# Altium schematic symbol library FPGA_Xilinx.SchLib: 34 symbols (part 2 of 2)
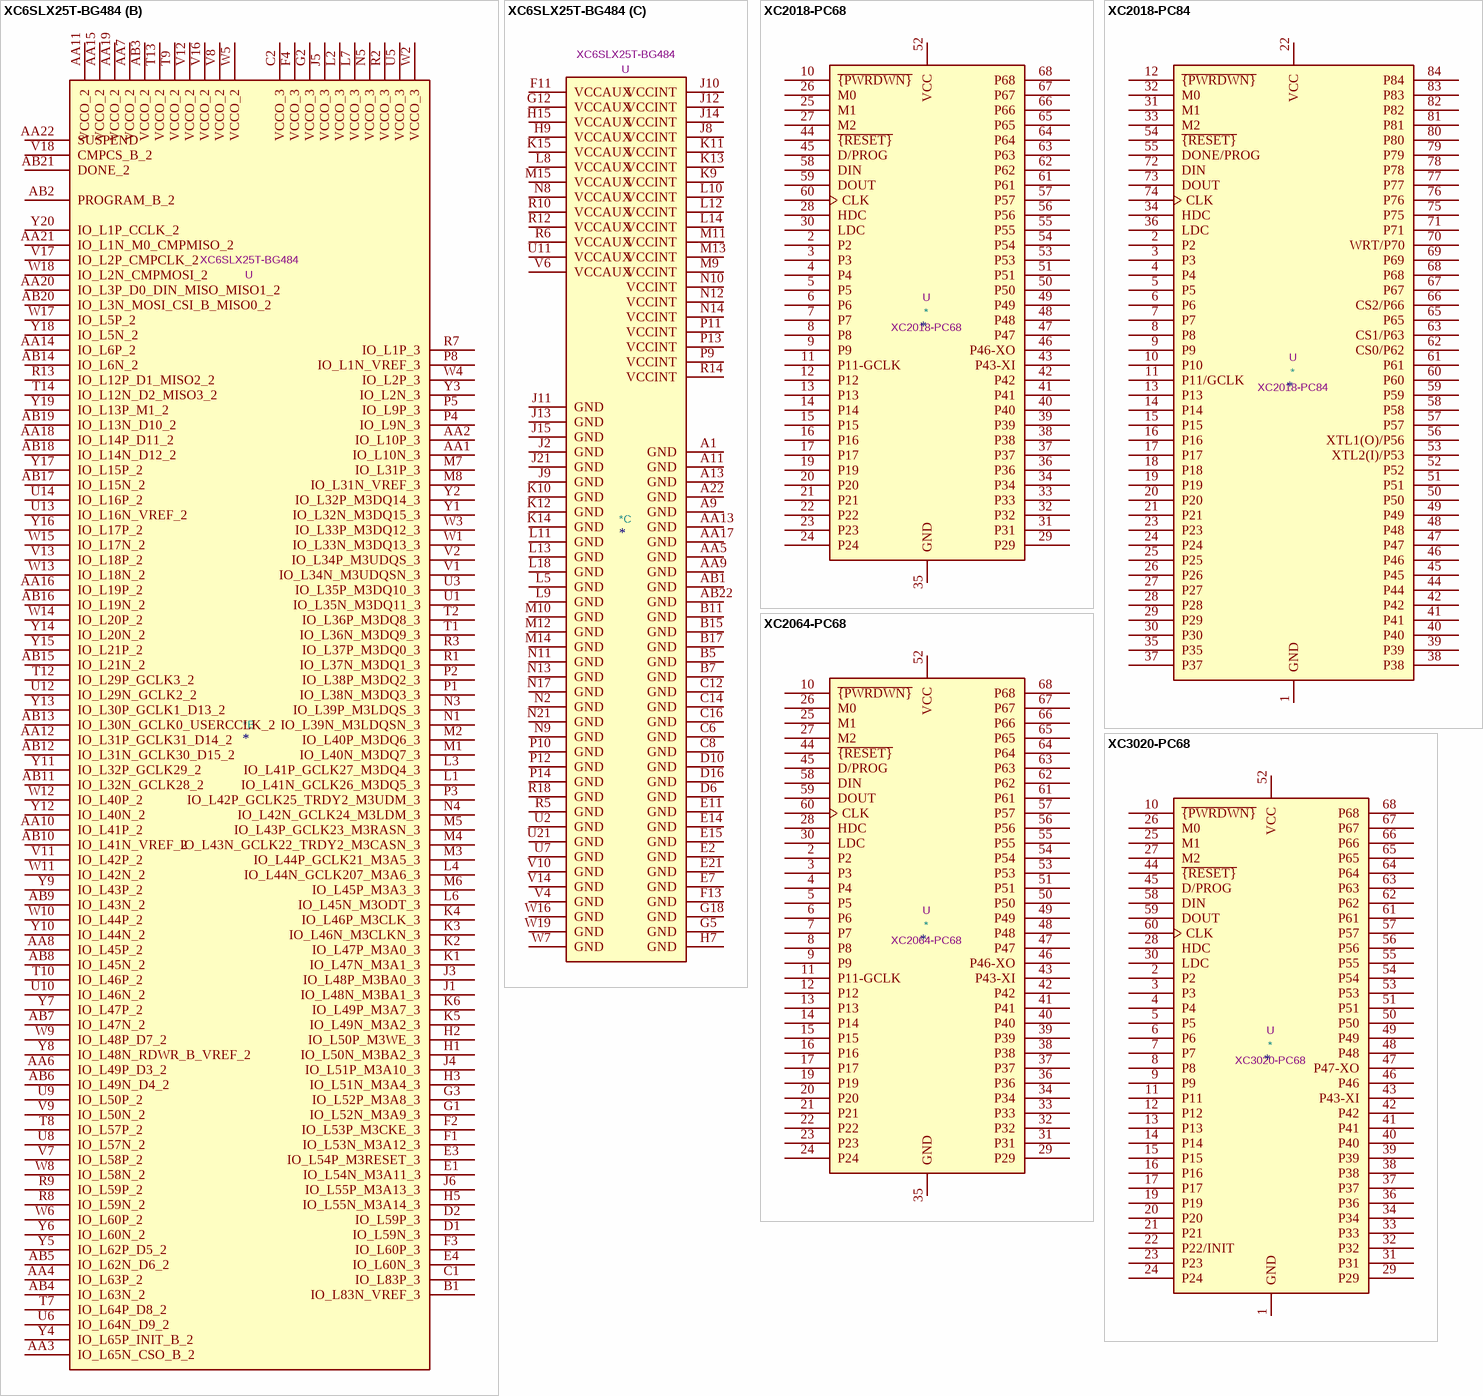
[diagram p12: symbols XC6SLX25T-BG484 to XC3020-PC68]

## XC2018-PC84
designator *  value XC2018-PC84  Reference: U
pins: 1 GND, 2 P2, 3 P3, 4 P4, 5 P5, 6 P6, 7 P7, 8 P8, 9 P9, 10 P10, 11 P11/GCLK, 12 ~{{PWRDWN}}, 13 P13, 14 P14, 15 P15, 16 P16, 17 P17, 18 P18, 19 P19, 20 P20, 21 P21, 22 VCC, 23 P23, 24 P24, 25 P25, 26 P26, 27 P27, 28 P28, 29 P29, 30 P30, 31 M1, 32 M0, 33 M2, 34 HDC, 35 P35, 36 LDC, 37 P37, 38 P38, 39 P39, 40 P40, 41 P41, 42 P42, 43 GND hidden, 44 P44, 45 P45, 46 P46, 47 P47, 48 P48, 49 P49, 50 P50, 51 P51, 52 P52, 53 XTL2(I)/P53, 54 ~{{RESET}}, 55 DONE/PROG, 56 XTL1(O)/P56, 57 P57, 58 P58, 59 P59, 60 P60, 61 P61, 62 CS0/P62, 63 CS1/P63, 64 VCC hidden, 65 P65, 66 CS2/P66, 67 P67, 68 P68, 69 P69, 70 WRT/P70, 71 P71, 72 DIN, 73 DOUT, 74 CLK, 75 P75, 76 P76, 77 P77, 78 P78, 79 P79, 80 P80, 81 P81, 82 P82, 83 P83, 84 P84

## XC2064-PC68
designator *  value XC2064-PC68  Reference: U
pins: 1 GND hidden, 2 P2, 3 P3, 4 P4, 5 P5, 6 P6, 7 P7, 8 P8, 9 P9, 10 ~{{PWRDWN}}, 11 P11-GCLK, 12 P12, 13 P13, 14 P14, 15 P15, 16 P16, 17 P17, 18 VCC hidden, 19 P19, 20 P20, 21 P21, 22 P22, 23 P23, 24 P24, 25 M1, 26 M0, 27 M2, 28 HDC, 29 P29, 30 LDC, 31 P31, 32 P32, 33 P33, 34 P34, 35 GND, 36 P36, 37 P37, 38 P38, 39 P39, 40 P40, 41 P41, 42 P42, 43 P43-XI, 44 ~{{RESET}}, 45 D/PROG, 46 P46-XO, 47 P47, 48 P48, 49 P49, 50 P50, 51 P51, 52 VCC, 53 P53, 54 P54, 55 P55, 56 P56, 57 P57, 58 DIN, 59 DOUT, 60 CLK, 61 P61, 62 P62, 63 P63, 64 P64, 65 P65, 66 P66, 67 P67, 68 P68

## XC3020-PC68
designator *  value XC3020-PC68  Reference: U
pins: 1 GND, 2 P2, 3 P3, 4 P4, 5 P5, 6 P6, 7 P7, 8 P8, 9 P9, 10 ~{{PWRDWN}}, 11 P11, 12 P12, 13 P13, 14 P14, 15 P15, 16 P16, 17 P17, 18 VCC hidden, 19 P19, 20 P20, 21 P21, 22 P22/INIT, 23 P23, 24 P24, 25 M1, 26 M0, 27 M2, 28 HDC, 29 P29, 30 LDC, 31 P31, 32 P32, 33 P33, 34 P34, 35 GND hidden, 36 P36, 37 P37, 38 P38, 39 P39, 40 P40, 41 P41, 42 P42, 43 P43-XI, 44 ~{{RESET}}, 45 D/PROG, 46 P46, 47 P47-XO, 48 P48, 49 P49, 50 P50, 51 P51, 52 VCC, 53 P53, 54 P54, 55 P55, 56 P56, 57 P57, 58 DIN, 59 DOUT, 60 CLK, 61 P61, 62 P62, 63 P63, 64 P64, 65 P65, 66 P66, 67 P67, 68 P68

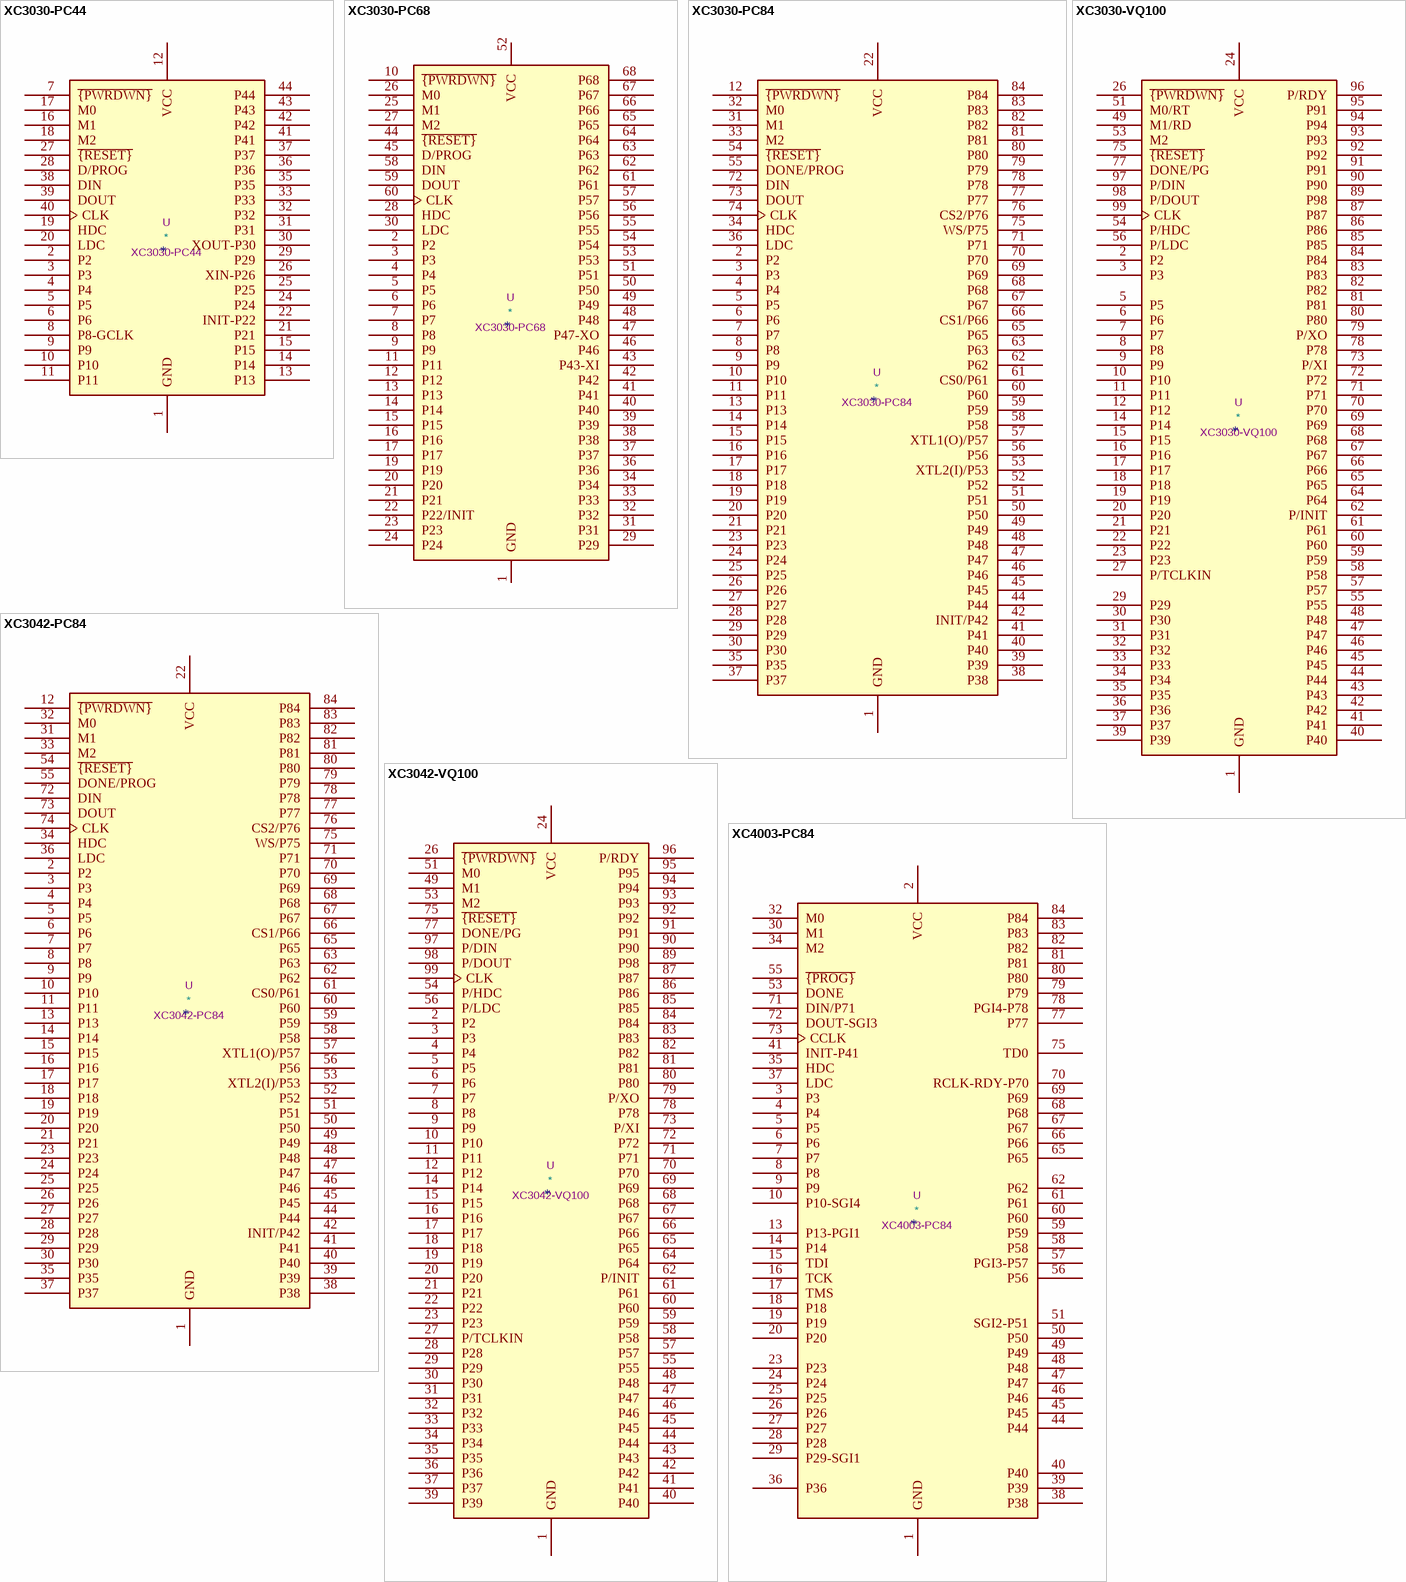
[diagram p9: symbols XC3030-PC44 to XC4003-PC84]

## XC3030-PC44
designator *  value XC3030-PC44  Reference: U
pins: 1 GND, 2 P2, 3 P3, 4 P4, 5 P5, 6 P6, 7 ~{{PWRDWN}}, 8 P8-GCLK, 9 P9, 10 P10, 11 P11, 12 VCC, 13 P13, 14 P14, 15 P15, 16 M1, 17 M0, 18 M2, 19 HDC, 20 LDC, 21 P21, 22 INIT-P22, 23 GND hidden, 24 P24, 25 P25, 26 XIN-P26, 27 ~{{RESET}}, 28 D/PROG, 29 P29, 30 XOUT-P30, 31 P31, 32 P32, 33 P33, 34 VCC hidden, 35 P35, 36 P36, 37 P37, 38 DIN, 39 DOUT, 40 CLK, 41 P41, 42 P42, 43 P43, 44 P44

## XC3030-PC68
designator *  value XC3030-PC68  Reference: U
pins: 1 GND, 2 P2, 3 P3, 4 P4, 5 P5, 6 P6, 7 P7, 8 P8, 9 P9, 10 ~{{PWRDWN}}, 11 P11, 12 P12, 13 P13, 14 P14, 15 P15, 16 P16, 17 P17, 18 VCC hidden, 19 P19, 20 P20, 21 P21, 22 P22/INIT, 23 P23, 24 P24, 25 M1, 26 M0, 27 M2, 28 HDC, 29 P29, 30 LDC, 31 P31, 32 P32, 33 P33, 34 P34, 35 GND hidden, 36 P36, 37 P37, 38 P38, 39 P39, 40 P40, 41 P41, 42 P42, 43 P43-XI, 44 ~{{RESET}}, 45 D/PROG, 46 P46, 47 P47-XO, 48 P48, 49 P49, 50 P50, 51 P51, 52 VCC, 53 P53, 54 P54, 55 P55, 56 P56, 57 P57, 58 DIN, 59 DOUT, 60 CLK, 61 P61, 62 P62, 63 P63, 64 P64, 65 P65, 66 P66, 67 P67, 68 P68

## XC3030-PC84
designator *  value XC3030-PC84  Reference: U
pins: 1 GND, 2 P2, 3 P3, 4 P4, 5 P5, 6 P6, 7 P7, 8 P8, 9 P9, 10 P10, 11 P11, 12 ~{{PWRDWN}}, 13 P13, 14 P14, 15 P15, 16 P16, 17 P17, 18 P18, 19 P19, 20 P20, 21 P21, 22 VCC, 23 P23, 24 P24, 25 P25, 26 P26, 27 P27, 28 P28, 29 P29, 30 P30, 31 M1, 32 M0, 33 M2, 34 HDC, 35 P35, 36 LDC, 37 P37, 38 P38, 39 P39, 40 P40, 41 P41, 42 INIT/P42, 43 GND hidden, 44 P44, 45 P45, 46 P46, 47 P47, 48 P48, 49 P49, 50 P50, 51 P51, 52 P52, 53 XTL2(I)/P53, 54 ~{{RESET}}, 55 DONE/PROG, 56 P56, 57 XTL1(O)/P57, 58 P58, 59 P59, 60 P60, 61 CS0/P61, 62 P62, 63 P63, 64 VCC hidden, 65 P65, 66 CS1/P66, 67 P67, 68 P68, 69 P69, 70 P70, 71 P71, 72 DIN, 73 DOUT, 74 CLK, 75 WS/P75, 76 CS2/P76, 77 P77, 78 P78, 79 P79, 80 P80, 81 P81, 82 P82, 83 P83, 84 P84

## XC3030-VQ100
designator *  value XC3030-VQ100  Reference: U
pins: 1 GND, 2 P2, 3 P3, 5 P5, 6 P6, 7 P7, 8 P8, 9 P9, 10 P10, 11 P11, 12 P12, 13 GND hidden, 14 P14, 15 P15, 16 P16, 17 P17, 18 P18, 19 P19, 20 P20, 21 P21, 22 P22, 23 P23, 24 VCC, 25 GND hidden, 26 ~{{PWRDWN}}, 27 P/TCLKIN, 29 P29, 30 P30, 31 P31, 32 P32, 33 P33, 34 P34, 35 P35, 36 P36, 37 P37, 38 VCC hidden, 39 P39, 40 P40, 41 P41, 42 P42, 43 P43, 44 P44, 45 P45, 46 P46, 47 P47, 48 P48, 49 M1/RD, 50 GND hidden, 51 M0/RT, 52 VCC hidden, 53 M2, 54 P/HDC, 55 P55, 56 P/LDC, 57 P57, 58 P58, 59 P59, 60 P60, 61 P61, 62 P/INIT, 63 GND hidden, 64 P64, 65 P65, 66 P66, 67 P67, 68 P68, 69 P69, 70 P70, 71 P71, 72 P72, 73 P/XI, 74 GND hidden, 75 ~{{RESET}}, 76 VCC hidden, 77 DONE/PG, 78 P78, 79 P/XO, 80 P80, 81 P81, 82 P82, 83 P83, 84 P84, 85 P85, 86 P86, 87 P87, 88 VCC hidden, 89 P98, 90 P90, 91 P91, 92 P92, 93 P93, 94 P94, 95 P91, 96 P/RDY, 97 P/DIN, 98 P/DOUT, 99 CLK, 100 VCC hidden

## XC3042-PC84
designator *  value XC3042-PC84  Reference: U
pins: 1 GND, 2 P2, 3 P3, 4 P4, 5 P5, 6 P6, 7 P7, 8 P8, 9 P9, 10 P10, 11 P11, 12 ~{{PWRDWN}}, 13 P13, 14 P14, 15 P15, 16 P16, 17 P17, 18 P18, 19 P19, 20 P20, 21 P21, 22 VCC, 23 P23, 24 P24, 25 P25, 26 P26, 27 P27, 28 P28, 29 P29, 30 P30, 31 M1, 32 M0, 33 M2, 34 HDC, 35 P35, 36 LDC, 37 P37, 38 P38, 39 P39, 40 P40, 41 P41, 42 INIT/P42, 43 GND hidden, 44 P44, 45 P45, 46 P46, 47 P47, 48 P48, 49 P49, 50 P50, 51 P51, 52 P52, 53 XTL2(I)/P53, 54 ~{{RESET}}, 55 DONE/PROG, 56 P56, 57 XTL1(O)/P57, 58 P58, 59 P59, 60 P60, 61 CS0/P61, 62 P62, 63 P63, 64 VCC hidden, 65 P65, 66 CS1/P66, 67 P67, 68 P68, 69 P69, 70 P70, 71 P71, 72 DIN, 73 DOUT, 74 CLK, 75 WS/P75, 76 CS2/P76, 77 P77, 78 P78, 79 P79, 80 P80, 81 P81, 82 P82, 83 P83, 84 P84

## XC3042-VQ100
designator *  value XC3042-VQ100  Reference: U
pins: 1 GND, 2 P2, 3 P3, 4 P4, 5 P5, 6 P6, 7 P7, 8 P8, 9 P9, 10 P10, 11 P11, 12 P12, 13 GND hidden, 14 P14, 15 P15, 16 P16, 17 P17, 18 P18, 19 P19, 20 P20, 21 P21, 22 P22, 23 P23, 24 VCC, 25 GND hidden, 26 ~{{PWRDWN}}, 27 P/TCLKIN, 28 P28, 29 P29, 30 P30, 31 P31, 32 P32, 33 P33, 34 P34, 35 P35, 36 P36, 37 P37, 38 VCC hidden, 39 P39, 40 P40, 41 P41, 42 P42, 43 P43, 44 P44, 45 P45, 46 P46, 47 P47, 48 P48, 49 M1, 50 GND hidden, 51 M0, 52 VCC hidden, 53 M2, 54 P/HDC, 55 P55, 56 P/LDC, 57 P57, 58 P58, 59 P59, 60 P60, 61 P61, 62 P/INIT, 63 GND hidden, 64 P64, 65 P65, 66 P66, 67 P67, 68 P68, 69 P69, 70 P70, 71 P71, 72 P72, 73 P/XI, 74 GND hidden, 75 ~{{RESET}}, 76 VCC hidden, 77 DONE/PG, 78 P78, 79 P/XO, 80 P80, 81 P81, 82 P82, 83 P83, 84 P84, 85 P85, 86 P86, 87 P87, 88 VCC hidden, 89 P98, 90 P90, 91 P91, 92 P92, 93 P93, 94 P94, 95 P95, 96 P/RDY, 97 P/DIN, 98 P/DOUT, 99 CLK, 100 VCC hidden

## XC4003-PC84
designator *  value XC4003-PC84  Reference: U
pins: 1 GND, 2 VCC, 3 P3, 4 P4, 5 P5, 6 P6, 7 P7, 8 P8, 9 P9, 10 P10-SGI4, 11 VCC hidden, 12 GND hidden, 13 P13-PGI1, 14 P14, 15 TDI, 16 TCK, 17 TMS, 18 P18, 19 P19, 20 P20, 21 GND hidden, 23 P23, 24 P24, 25 P25, 26 P26, 27 P27, 28 P28, 29 P29-SGI1, 30 M1, 31 GND hidden, 32 M0, 33 VCC hidden, 34 M2, 35 HDC, 36 P36, 37 LDC, 38 P38, 39 P39, 40 P40, 41 INIT-P41, 42 VCC hidden, 43 GND hidden, 44 P44, 45 P45, 46 P46, 47 P47, 48 P48, 49 P49, 50 P50, 51 SGI2-P51, 52 GND hidden, 53 DONE, 54 VCC hidden, 55 ~{{PROG}}, 56 P56, 57 PGI3-P57, 58 P58, 59 P59, 60 P60, 61 P61, 62 P62, 64 GND hidden, 65 P65, 66 P66, 67 P67, 68 P68, 69 P69, 70 RCLK-RDY-P70, 71 DIN/P71, 72 DOUT-SGI3, 73 CCLK, 74 VCC hidden, 75 TD0, 76 GND hidden, 77 P77, 78 PGI4-P78, 79 P79, 80 P80, 81 P81, 82 P82, 83 P83, 84 P84

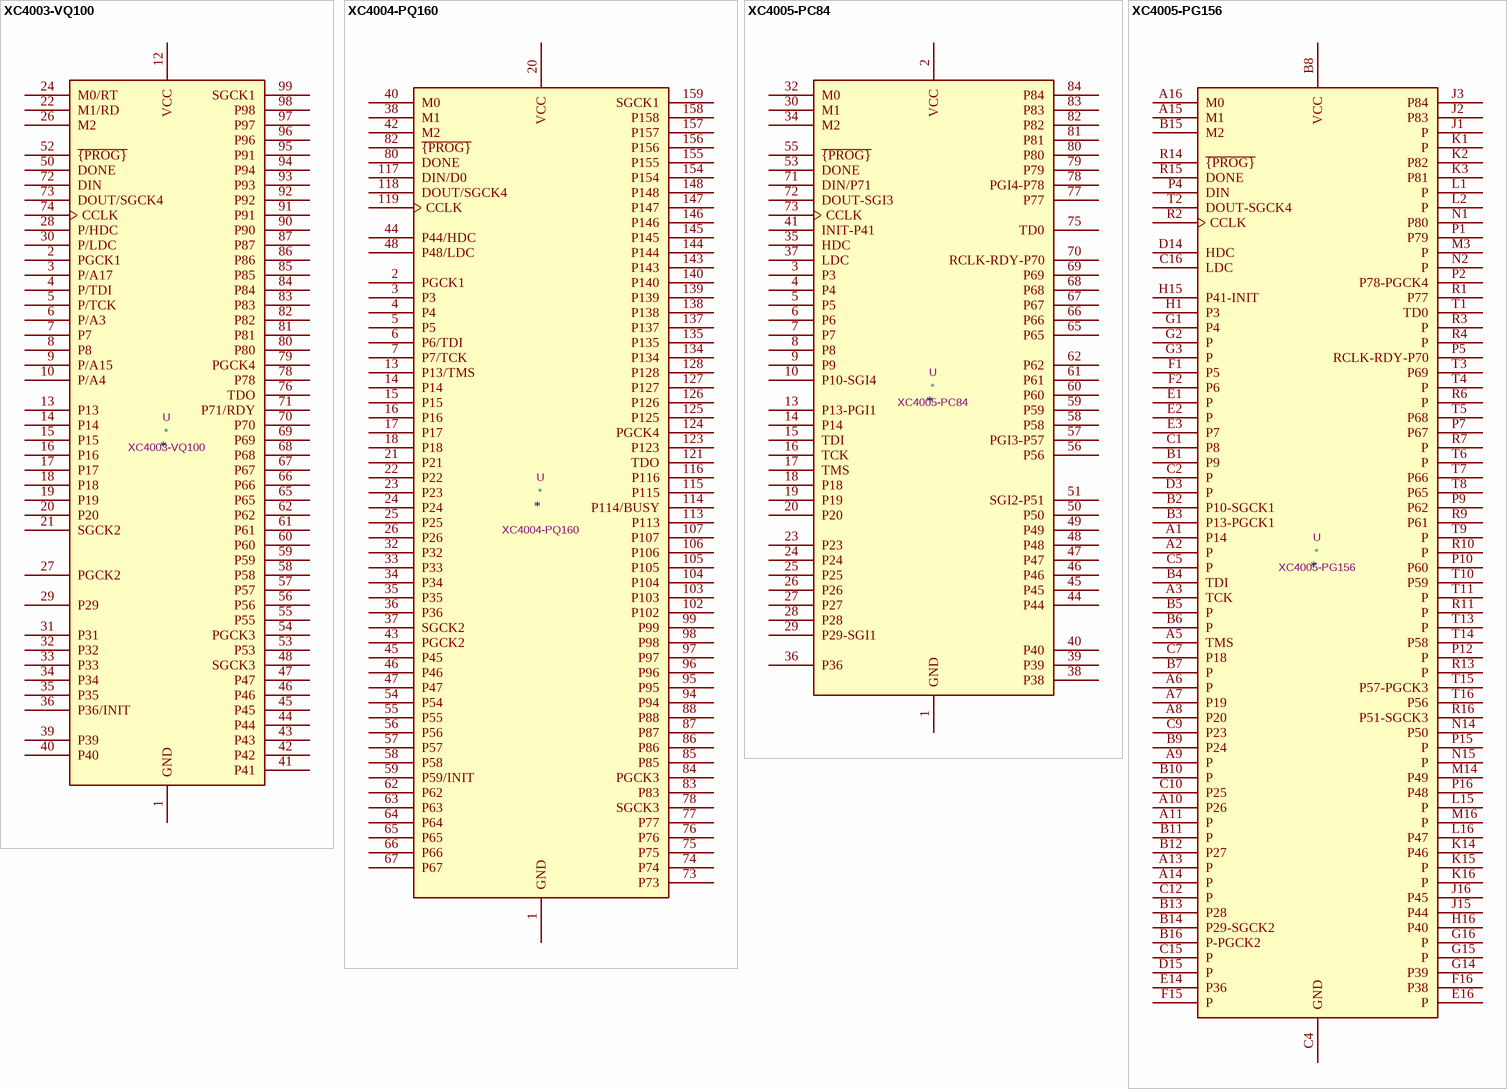
[diagram p10: symbols XC4003-VQ100 to XC4005-PG156]

## XC4003-VQ100
designator *  value XC4003-VQ100  Reference: U
Datasheet: xilinx/xc400x-pinout.pdf
pins: 1 GND, 2 PGCK1, 3 P/A17, 4 P/TDI, 5 P/TCK, 6 P/A3, 7 P7, 8 P8, 9 P/A15, 10 P/A4, 11 GND hidden, 12 VCC, 13 P13, 14 P14, 15 P15, 16 P16, 17 P17, 18 P18, 19 P19, 20 P20, 21 SGCK2, 22 M1/RD, 23 GND hidden, 24 M0/RT, 25 VCC hidden, 26 M2, 27 PGCK2, 28 P/HDC, 29 P29, 30 P/LDC, 31 P31, 32 P32, 33 P33, 34 P34, 35 P35, 36 P36/INIT, 37 VCC hidden, 38 GND hidden, 39 P39, 40 P40, 41 P41, 42 P42, 43 P43, 44 P44, 45 P45, 46 P46, 47 P47, 48 SGCK3, 49 GND hidden, 50 DONE, 51 VCC hidden, 52 ~{{PROG}}, 53 P53, 54 PGCK3, 55 P55, 56 P56, 57 P57, 58 P58, 59 P59, 60 P60, 61 P61, 62 P62, 63 VCC hidden, 64 GND hidden, 65 P65, 66 P66, 67 P67, 68 P68, 69 P69, 70 P70, 71 P71/RDY, 72 DIN, 73 DOUT/SGCK4, 74 CCLK, 75 VCC hidden, 76 TDO, 77 GND hidden, 78 P78, 79 PGCK4, 80 P80, 81 P81, 82 P82, 83 P83, 84 P84, 85 P85, 86 P86, 87 P87, 88 GND hidden, 89 VCC hidden, 90 P90, 91 P91, 92 P92, 93 P93, 94 P94, 95 P91, 96 P96, 97 P97, 98 P98, 99 SGCK1, 100 VCC hidden

## XC4004-PQ160
designator *  value XC4004-PQ160  Reference: U
pins: 1 GND, 2 PGCK1, 3 P3, 4 P4, 5 P5, 6 P6/TDI, 7 P7/TCK, 10 GND hidden, 13 P13/TMS, 14 P14, 15 P15, 16 P16, 17 P17, 18 P18, 19 GND hidden, 20 VCC, 21 P21, 22 P22, 23 P23, 24 P24, 25 P25, 26 P26, 29 GND hidden, 32 P32, 33 P33, 34 P34, 35 P35, 36 P36, 37 SGCK2, 38 M1, 39 GND hidden, 40 M0, 41 VCC hidden, 42 M2, 43 PGCK2, 44 P44/HDC, 45 P45, 46 P46, 47 P47, 48 P48/LDC, 51 GND hidden, 54 P54, 55 P55, 56 P56, 57 P57, 58 P58, 59 P59/INIT, 60 VCC hidden, 61 GND hidden, 62 P62, 63 P63, 64 P64, 65 P65, 66 P66, 67 P67, 70 GND hidden, 73 P73, 74 P74, 75 P75, 76 P76, 77 P77, 78 SGCK3, 79 GND hidden, 80 DONE, 81 VCC hidden, 82 ~{{PROG}}, 83 P83, 84 PGCK3, 85 P85, 86 P86, 87 P87, 88 P88, 91 GND hidden, 94 P94, 95 P95, 96 P96, 97 P97, 98 P98, 99 P99, 100 VCC hidden, 101 GND hidden, 102 P102, 103 P103, 104 P104, 105 P105, 106 P106, 107 P107, 110 GND hidden, 113 P113, 114 P114/BUSY, 115 P115, 116 P116, 117 DIN/D0, 118 DOUT/SGCK4, 119 CCLK, 120 VCC hidden, 121 TDO, 122 GND hidden, 123 P123, 124 PGCK4, 125 P125, 126 P126, 127 P127, 128 P128, 131 GND hidden, 134 P134, 135 P135, 137 P137, 138 P138, 139 P139, 140 P140, 141 GND hidden, 142 VCC hidden, 143 P143, 144 P144, 145 P145, 146 P146, 147 P147, 148 P148, 151 GND hidden, 154 P154, 155 P155, 156 P156, 157 P157, 158 P158, 159 SGCK1, 160 VCC hidden

## XC4005-PC84
designator *  value XC4005-PC84  Reference: U
pins: 1 GND, 2 VCC, 3 P3, 4 P4, 5 P5, 6 P6, 7 P7, 8 P8, 9 P9, 10 P10-SGI4, 11 VCC hidden, 12 GND hidden, 13 P13-PGI1, 14 P14, 15 TDI, 16 TCK, 17 TMS, 18 P18, 19 P19, 20 P20, 21 GND hidden, 23 P23, 24 P24, 25 P25, 26 P26, 27 P27, 28 P28, 29 P29-SGI1, 30 M1, 31 GND hidden, 32 M0, 33 VCC hidden, 34 M2, 35 HDC, 36 P36, 37 LDC, 38 P38, 39 P39, 40 P40, 41 INIT-P41, 42 VCC hidden, 43 GND hidden, 44 P44, 45 P45, 46 P46, 47 P47, 48 P48, 49 P49, 50 P50, 51 SGI2-P51, 52 GND hidden, 53 DONE, 54 VCC hidden, 55 ~{{PROG}}, 56 P56, 57 PGI3-P57, 58 P58, 59 P59, 60 P60, 61 P61, 62 P62, 64 GND hidden, 65 P65, 66 P66, 67 P67, 68 P68, 69 P69, 70 RCLK-RDY-P70, 71 DIN/P71, 72 DOUT-SGI3, 73 CCLK, 74 VCC hidden, 75 TD0, 76 GND hidden, 77 P77, 78 PGI4-P78, 79 P79, 80 P80, 81 P81, 82 P82, 83 P83, 84 P84

## XC4005-PG156
designator *  value XC4005-PG156  Reference: U
pins: A1 P14, A2 P, A3 TCK, A5 TMS, A6 P, A7 P19, A8 P20, A9 P, A10 P26, A11 P, A13 P, A14 P, A15 M1, A16 M0, B1 P9, B2 P10-SGCK1, B3 P13-PGCK1, B4 TDI, B5 P, B6 P, B7 P, B8 VCC, B9 P24, B10 P, B11 P, B12 P27, B13 P28, B14 P29-SGCK2, B15 M2, B16 P-PGCK2, C1 P8, C2 P, C3 VCC hidden, C4 GND, C5 P, C6 GND hidden, C7 P18, C8 GND hidden, C9 P23, C10 P25, C11 GND hidden, C12 P, C13 GND hidden, C14 VCC hidden, C15 P, C16 LDC, D3 P, D14 HDC, D15 P, E1 P, E2 P, E3 P7, E14 P36, E16 P, F1 P5, F2 P6, F3 GND hidden, F14 GND hidden, F15 P, F16 P38, G1 P4, G2 P, G3 P, G14 P39, G15 P, G16 P, H1 P3, H2 GND hidden, H3 VCC hidden, H14 VCC hidden, H15 P41-INIT, H16 P40, J1 P, J2 P83, J3 P84, J14 GND hidden, J15 P44, J16 P45, K1 P, K2 P82, K3 P81, K14 P46, K15 P, K16 P, L1 P, L2 P, L3 GND hidden, L14 GND hidden, L15 P, L16 P47, M3 P, M14 P49, M16 P, N1 P80, N2 P, N3 GND hidden, N14 P50, N15 P, P1 P79, P2 P78-PGCK4, P3 VCC hidden, P4 DIN, P5 RCLK-RDY-P70, P6 GND hidden, P7 P67, P8 GND hidden, P9 P62, P10 P60, P11 GND hidden, P12 P, P13 VCC hidden, P14 GND hidden, P15 P, P16 P48, R1 P77, R2 CCLK, R3 P, R4 P, R6 P, R7 P, R8 VCC hidden, R9 P61, R10 P, R11 P, R13 P, R14 ~{{PROG}}, R15 DONE, R16 P51-SGCK3, T1 TD0, T2 DOUT-SGCK4, T3 P69, T4 P, T5 P68, T6 P, T7 P66, T8 P65, T9 P, T10 P59, T11 P, T13 P, T14 P58, T15 P57-PGCK3, T16 P56

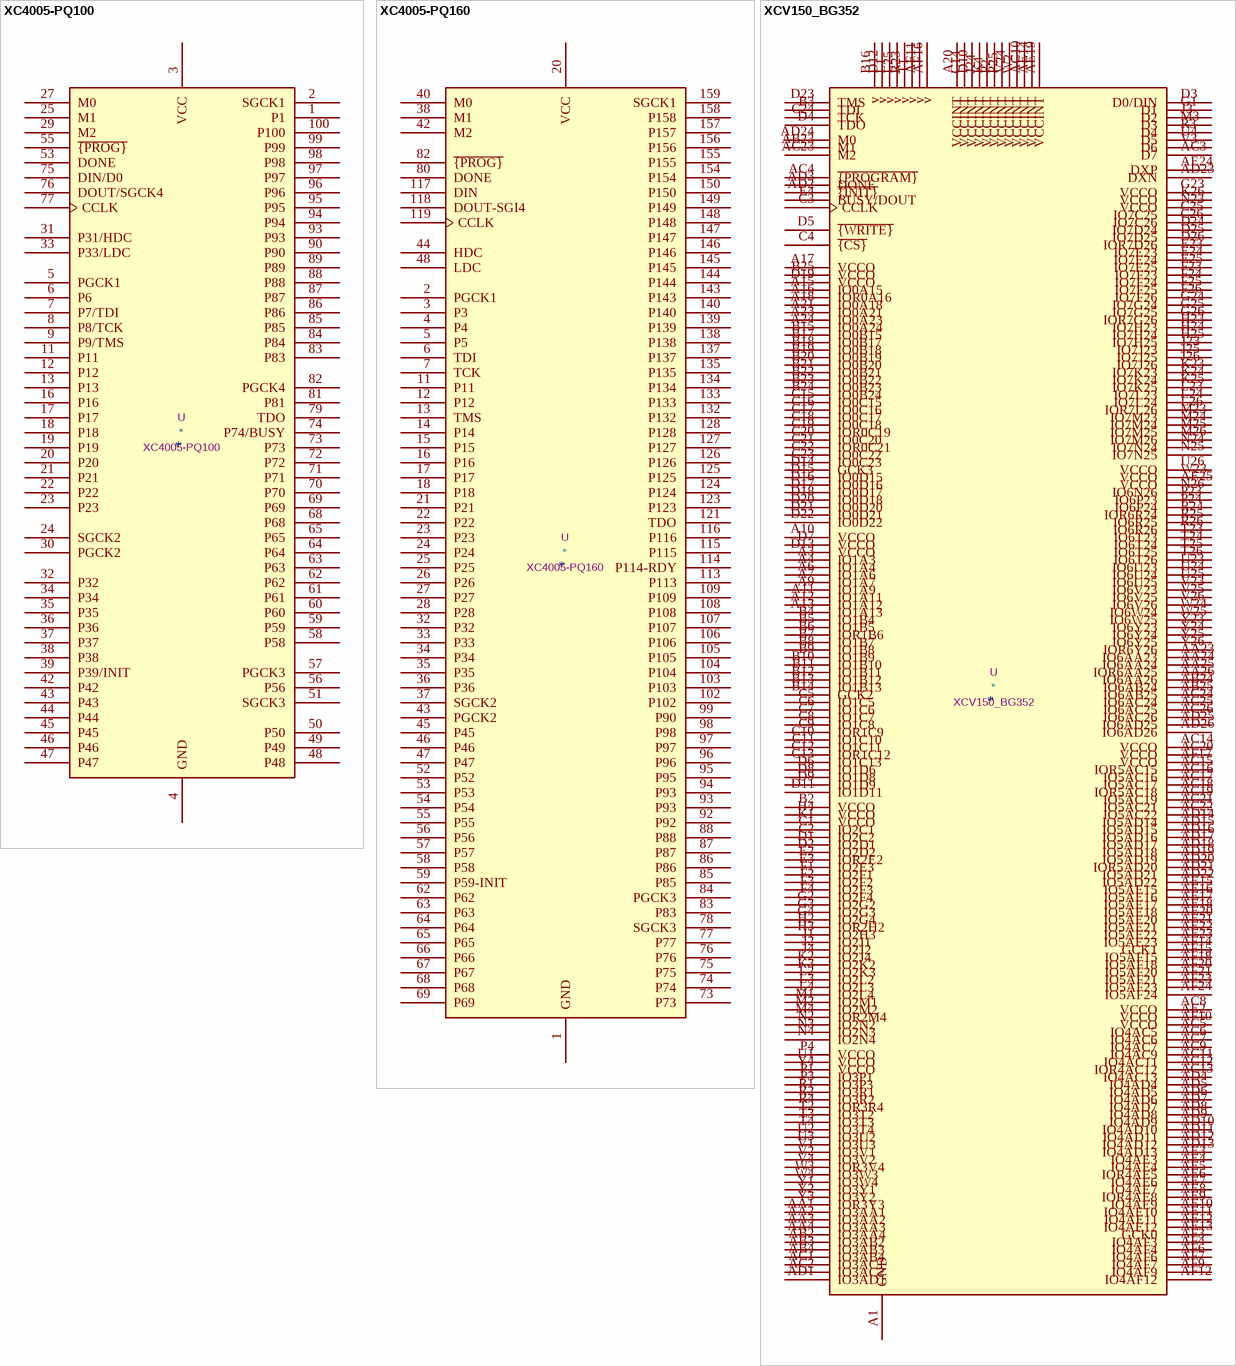
[diagram p11: symbols XC4005-PQ100 to XCV150_BG352]

## XC4005-PQ100
designator *  value XC4005-PQ100  Reference: U
pins: 1 P1, 2 SGCK1, 3 VCC, 4 GND, 5 PGCK1, 6 P6, 7 P7/TDI, 8 P8/TCK, 9 P9/TMS, 11 P11, 12 P12, 13 P13, 14 GND hidden, 15 VCC hidden, 16 P16, 17 P17, 18 P18, 19 P19, 20 P20, 21 P21, 22 P22, 23 P23, 24 SGCK2, 25 M1, 26 GND hidden, 27 M0, 28 VCC hidden, 29 M2, 30 PGCK2, 31 P31/HDC, 32 P32, 33 P33/LDC, 34 P34, 35 P35, 36 P36, 37 P37, 38 P38, 39 P39/INIT, 40 VCC hidden, 41 GND hidden, 42 P42, 43 P43, 44 P44, 45 P45, 46 P46, 47 P47, 48 P48, 49 P49, 50 P50, 51 SGCK3, 52 GND hidden, 53 DONE, 54 VCC hidden, 55 ~{{PROG}}, 56 P56, 57 PGCK3, 58 P58, 59 P59, 60 P60, 61 P61, 62 P62, 63 P63, 64 P64, 65 P65, 66 VCC hidden, 67 GND hidden, 68 P68, 69 P69, 70 P70, 71 P71, 72 P72, 73 P73, 74 P74/BUSY, 75 DIN/D0, 76 DOUT/SGCK4, 77 CCLK, 78 VCC hidden, 79 TDO, 80 GND hidden, 81 P81, 82 PGCK4, 83 P83, 84 P84, 85 P85, 86 P86, 87 P87, 88 P88, 89 P89, 90 P90, 91 GND hidden, 92 VCC hidden, 93 P93, 94 P94, 95 P95, 96 P96, 97 P97, 98 P98, 99 P99, 100 P100

## XC4005-PQ160
designator *  value XC4005-PQ160  Reference: U
pins: 1 GND, 2 PGCK1, 3 P3, 4 P4, 5 P5, 6 TDI, 7 TCK, 10 GND hidden, 11 P11, 12 P12, 13 TMS, 14 P14, 15 P15, 16 P16, 17 P17, 18 P18, 19 GND hidden, 20 VCC, 21 P21, 22 P22, 23 P23, 24 P24, 25 P25, 26 P26, 27 P27, 28 P28, 29 GND hidden, 32 P32, 33 P33, 34 P34, 35 P35, 36 P36, 37 SGCK2, 38 M1, 39 GND hidden, 40 M0, 41 VCC hidden, 42 M2, 43 PGCK2, 44 HDC, 45 P45, 46 P46, 47 P47, 48 LDC, 51 GND hidden, 52 P52, 53 P53, 54 P54, 55 P55, 56 P56, 57 P57, 58 P58, 59 P59-INIT, 60 VCC hidden, 61 GND hidden, 62 P62, 63 P63, 64 P64, 65 P65, 66 P66, 67 P67, 68 P68, 69 P69, 70 GND hidden, 73 P73, 74 P74, 75 P75, 76 P76, 77 P77, 78 SGCK3, 79 GND hidden, 80 DONE, 81 VCC hidden, 82 ~{{PROG}}, 83 P83, 84 PGCK3, 85 P85, 86 P86, 87 P87, 88 P88, 91 GND hidden, 92 P92, 93 P93, 94 P93, 95 P95, 96 P96, 97 P97, 98 P98, 99 P90, 100 VCC hidden, 101 GND hidden, 102 P102, 103 P103, 104 P104, 105 P105, 106 P106, 107 P107, 108 P108, 109 P109, 110 GND hidden, 113 P113, 114 P114-RDY, 115 P115, 116 P116, 117 DIN, 118 DOUT-SGI4, 119 CCLK, 120 VCC hidden, 121 TDO, 122 GND hidden, 123 P123, 124 P124, 125 P125, 126 P126, 127 P127, 128 P128, 131 GND hidden, 132 P132, 133 P133, 134 P134, 135 P135, 137 P137, 138 P138, 139 P139, 140 P140, 141 GND hidden, 142 VCC hidden, 143 P143, 144 P144, 145 P145, 146 P146, 147 P147, 148 P148, 149 P149, 150 P150, 151 GND hidden, 154 P154, 155 P155, 156 P156, 157 P157, 158 P158, 159 SGCK1, 160 VCC hidden

## XCV150_BG352
designator *  value XCV150_BG352  Reference: U
ki_keywords: field programmable gate array; ki_description: Virtex FPGA; Datasheet: https://www.xilinx.com/support/documentation/data_sheets/ds003.pdf
pins: A1 GND, A2 GND hidden, A3 IO1A3, A4 IO1A4, A5 GND hidden, A6 IO1A6, A7 IO1A7, A8 GND hidden, A9 IO1A9, A10 VCCO, A11 IO1A11, A12 IO1A12, A13 IO1A13, A14 GND hidden, A15 IO0A15, A16 IOR0A16, A17 VCCO, A18 IO0A18, A19 GND hidden, A20 VCCINT, A21 IO0A21, A22 GND hidden, A23 IO0A23, A24 IO0A24, A25 GND hidden, A26 GND hidden, AA1 IO3AA1, AA2 IO3AA2, AA3 IO3AA3, AA4 IO3AA4, AA23 IO6AA23, AA24 IO6AA24, AA25 IOR6AA25, AA26 IO6AA26, AB1 GND hidden, AB2 IO3AB2, AB3 IO3AB3, AB4 IO3AB4, AB23 M1, AB24 IO6AB24, AB25 IO6AB25, AB26 GND hidden, AC1 IO3AC1, AC2 IO3AC2, AC3 D7, AC4 ~{{PROGRAM}}, AC5 IO4AC5, AC6 IO4AC6, AC7 IO4AC7, AC8 VCCO, AC9 IO4AC9, AC10 VCCINT, AC11 IO4AC11, AC12 IOR4AC12, AC13 IO4AC13, AC14 VCCO, AC15 IOR5AC15, AC16 IO5AC16, AC17 IO5AC17, AC18 IOR5AC18, AC19 IO5AC19, AC20 VCCO, AC21 IO5AC21, AC22 IO5AC22, AC23 M2, AC24 IO6AC24, AC25 IO6AC25, AC26 IO6AC26, AD1 IO3AD1, AD2 ~{{INIT}}, AD3 DONE, AD4 IO4AD4, AD5 IO4AD5, AD6 IO4AD6, AD7 IO4AD7, AD8 IO4AD8, AD9 IO4AD9, AD10 IO4AD10, AD11 IO4AD11, AD12 IO4AD12, AD13 IO4AD13, AD14 IO5AD14, AD15 IO5AD15, AD16 IO5AD16, AD17 IO5AD17, AD18 IO5AD18, AD19 IO5AD19, AD20 IOR5AD20, AD21 IO5AD21, AD22 IO5AD22, AD23 DXN, AD24 M0, AD25 IO6AD25, AD26 IO6AD26, AE1 GND hidden, AE2 VCCO, AE3 IO4AE3, AE4 IO4AE4, AE5 IOR4AE5, AE6 IO4AE6, AE7 IO4AE7, AE8 IOR4AE8, AE9 IO4AE9, AE10 IO4AE10, AE11 IO4AE11, AE12 IO4AE12, AE13 GCK0, AE14 VCCINT, AE15 IO5AE15, AE16 IO5AE16, AE17 IO5AE17, AE18 IO5AE18, AE19 VCCINT, AE20 IO5AE20, AE21 IO5AE21, AE22 IO5AE22, AE23 IO5AE23, AE24 DXP, AE25 VCCO, AE26 GND hidden, AF1 GND hidden, AF2 GND hidden, AF3 IO4AF3, AF4 IO4AF4, AF5 GND hidden, AF6 IO4AF6, AF7 IO4AF7, AF8 GND hidden, AF9 IO4AF9, AF10 VCCO, AF11 v, AF12 IO4AF12, AF13 GND hidden, AF14 GCK1, AF15 IO5AF15, AF16 v, AF17 VCCO, AF18 IO5AF18, AF19 GND hidden, AF20 IO5AF20, AF21 IO5AF21, AF22 GND hidden, AF23 IO5AF23, AF24 IO5AF24, AF25 GND hidden, AF26 GND hidden, B1 GND hidden, B2 VCCO, B3 TDI, B4 IO1B4, B5 IO1B5, B6 IOR1B6, B7 IO1B7, B8 IO1B8, B9 IO1B9, B10 IO1B10, B11 IO1B11, B12 IO1B12, B13 IO1B13, B14 GCK2, B15 IO0B15, B16 v, B17 IO0B17, B18 IO0B18, B19 IO0B19, B20 IO0B20, B21 IO0B21, B22 IO0B22, B23 IO0B23, B24 IO0B24, B25 VCCO, B26 GND hidden, C1 IO2C1, C2 IO2C2, C3 CCLK, C4 ~{{CS}}, C5 IO1C5, C6 IO1C6, C7 IO1C7, C8 IO1C8, C9 IOR1C9, C10 IO1C10, C11 IO1C11, C12 IOR1C12, C13 IO1C13, C14 VCCINT, C15 IO0C15, C16 IO0C16, C17 IO0C17, C18 IO0C18, C19 IOR0C19, C20 IO0C20, C21 IOR0C21, C22 IO0C22, C23 IO0C23, C24 TCK, C25 IO7C25, C26 IO7C26, D1 IO2D1, D2 IO2D2, D3 D0/DIN, D4 TDO, D5 ~{{WRITE}}, D6 IO1D6, D7 VCCO, D8 IO1D8, D9 IO1D9, D10 VCCINT, D11 IO1D11, D12 v, D13 VCCO, D14 GCK3, D15 IO0D15, D16 IO0D16, D17 IO0D17, D18 IO0D18, D19 VCCO, D20 IO0D20, D21 IO0D21, D22 IO0D22, D23 TMS, D24 IO7D24, D25 IO7D25, D26 IOR7D26, E1 GND hidden, E2 IOR2E2, E3 IO2E3, E4 BUSY/DOUT, E23 IO7E23, E24 IO7E24, E25 IO7E25, E26 GND hidden, F1 IO2F1, F2 IO2F2, F3 IO2F3, F4 IO2F4, F23 IO7F23, F24 IO7F24, F25 IO7F25, F26 IO7F26, G1 D1, G2 IO2G2, G3 IO2G3, G4 IO2G4, G23 VCCO, G24 IO7G24, G25 IO7G25, G26 IOR7G26, H1 GND hidden, H2 IOR2H2, H3 IO2H3, H4 VCCO, H23 IO7H23, H24 IO7H24, H25 IO7H25, H26 GND hidden, J1 IO2J1, J2 IO2J2, J3 D2, J4 IO2J4, J23 IO7J23, J24 VCCINT, J25 IO7J25, J26 IO7J26, K1 VCCO, K2 IO2K2, K3 IO2K3, K4 VCCINT, K23 IO7K23, K24 IO7K24, K25 IO7K25, K26 VCCO, L1 v, L2 IO2L2, L3 IO2L3, L4 IO2L4, L23 IO7L23, L24 IO7L24, L25 v, L26 IOR7L26, M1 IO2M1, M2 IO2M2, M3 D3, M4 IOR2M4, M23 IO7M23, M24 IO7M24, M25 IO7M25, M26 IO7M26, N1 GND hidden, N2 IO2N2, N3 IO2N3, N4 IO2N4, N23 VCCO, N24 IO7N24, N25 IO7N25, N26 IO6N26, P1 IO3P1, P2 VCCINT, P3 IO3P3, P4 VCCO, P23 IO6P23, P24 IO6P24, P25 VCCINT, P26 GND hidden, R1 IO3R1, R2 IO3R2, R3 D4, R4 IOR3R4, R23 v, R24 IOR6R24, R25 IO6R25, R26 IO6R26, T1 v, T2 IO3T2, T3 IO3T3, T4 IO3T4, T23 IO6T23, T24 IO6T24, T25 IO6T25, T26 IO6T26, U1 VCCO, U2 IO3U2, U3 IO3U3, U4 D5, U23 IO6U23, U24 IO6U24, U25 IO6U25, U26 VCCO, V1 IO3V1, V2 IO3V2, V3 D6, V4 IOR3V4, V23 IO6V23, V24 VCCINT, V25 IO6V25, V26 IO6V26, W1 GND hidden, W2 VCCINT, W3 IO3W3, W4 IO3W4, W23 VCCO, W24 IO6W24, W25 IO6W25, W26 GND hidden, Y1 IO3Y1, Y2 IO3Y2, Y3 IOR3Y3, Y4 VCCO, Y23 IO6Y23, Y24 IO6Y24, Y25 IO6Y25, Y26 IOR6Y26